# Altium schematic symbol library OSC.SchLib: 1 symbol
Pins are listed as number, name and electrical type; pins without a type are passive.

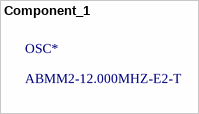
[diagram p0: symbol Component_1]

## Component_1
designator OSC*, comment ABMM2-12.000MHZ-E2-T
footprint *OSCCC600X360X120
1 alternate drawing of the same symbol